# Altium integrated library ESP32 with USB.IntLib: 16 symbols
Pins are listed as number, name and electrical type; pins without a type are passive.

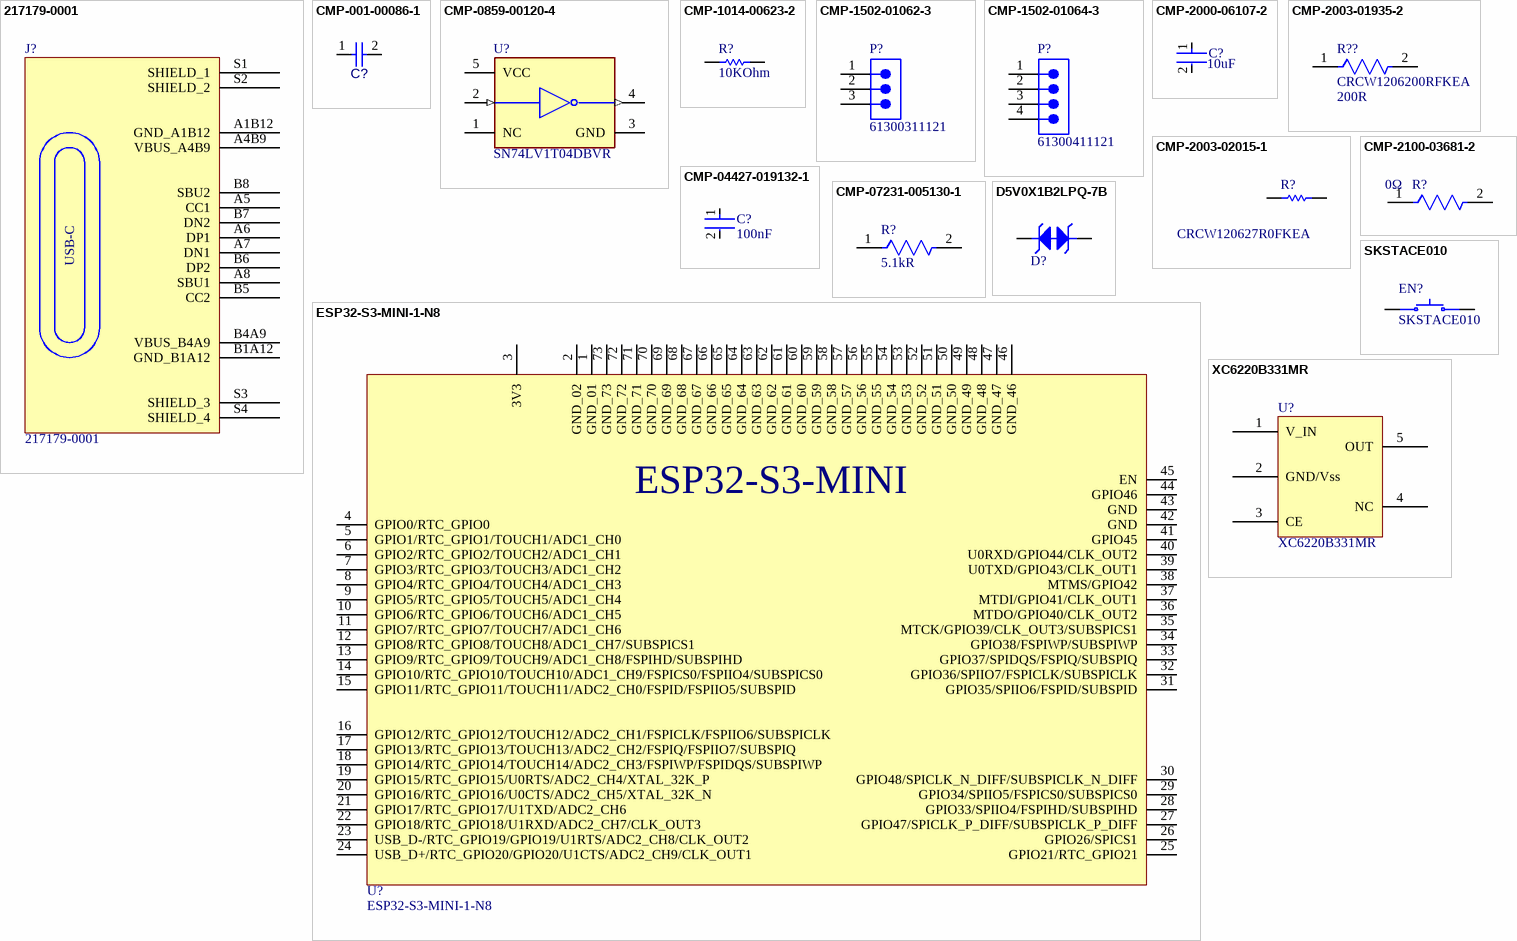
[diagram p0: symbols 217179-0001 to XC6220B331MR]

## 217179-0001
designator J?
CONN RCP USB2.0 TYP C 24P SMD RA; Manufacturer: Molex; Supplier: Digikey; Supplier Part Number: 900-2171790001CT-ND; Manufacturer Part Number: 217179-0001; RoHS: No; Category: Connectors; Stock: 7228; Pricing: 1=0.9, 10=0.745, 100=0.6212 (USD); LCSC Part Number: C3197684
footprint FP-2171790001-MFG
pins: A1B12 GND_A1B12, A4B9 VBUS_A4B9, A5 CC1, A6 DP1, A7 DN1, A8 SBU1, B1A12 GND_B1A12, B4A9 VBUS_B4A9, B5 CC2, B6 DP2, B7 DN2, B8 SBU2, S1 SHIELD_1, S2 SHIELD_2, S3 SHIELD_3, S4 SHIELD_4
text: USB-C

## CMP-001-00086-1
designator C?, comment CL31B105KAHNNNE  (value not drawn)
Ceramic Capacitor, Multilayer, Ceramic, 25V, 10% +Tol, 10% -Tol, X7R, 15% TC, 1uF, Surface Mount, 1206; Manufacturer: Samsung; Value: 1µF; Mounting Technology: Surface Mount; Capacitor Type: Ceramic; Case/Package: 1206; Max Operating Temperature: 125°C; Min Operating Temperature: -55°C; Pins: 2; RoHS Compliant: Yes; Manufacturer Part Number: CL31B105KAHNNNE; Component Type: Capacitors
footprint FP-CL31-IPC_A
pins: 1, 2

## CMP-0859-00120-4
designator U?, comment SN74LV1T04DBVR
IC INVERTER 1CH 1-INP SOT23-5; Number of Inputs: 1; Min Supply Voltage: 1.8V; High Level Output Current: 8mA; Quiescent Current: 1uA; Max Supply Voltage: 5.5V; Propagation Delay: 7ns; Weight: 0.001058oz; Package Quantity: 3000; Number of Channels: 1; Radiation Hardening: No; Mount: Surface Mount; RoHS Compliant: Yes; Number of Bits: 1; Max Operating Temperature: 125°C; Number of Circuits: 1; REACH SVHC: No SVHC; Logic Function: Inverter; Case/Package: SOT-23-5; Lead Free: Lead Free; Number of Pins: 5; Low Level Output Current: 8mA; Packaging: Tape and Reel; Min Operating Temperature: -40°C
footprint FP-DBV0005A-MFG
footprint FP-DBV0005A-IPC_C
footprint FP-DBV0005A-IPC_B
footprint FP-DBV0005A-IPC_A
pins: 1 NC, 2 A (in), 3 GND (power), 4 Y (out), 5 VCC (power)

## CMP-1014-00623-2
designator R?, comment Resistance: 10KOhm  (hidden comment: RC1206FR-0710KL)
Chip Resistor, 10 KOhm, +/- 1%, 0.25 W, -55 to 155 degC, 1206 (3216 Metric), RoHS, Tape and Reel; Manufacturer: Yageo; Voltage Rating: 200V; Temperature Coefficient: 100ppm/degreesC; Power Rating: 250mW; Packaging: TapeandReel; Termination: SMD/SMT; REACH SVHC: Unknown; Tolerance: 1%; Height: 0.55mm; Composition: ThickFilm; Max Operating Temperature: 155degC; Datasheet Version: Rev. 5, 10/2016; Lead Free: LeadFree; Case Code (Metric): 3216; Depth: 1.6mm; Package Quantity: 5000; RoHSCompliant: true; Military Standard: Not; Case/Package: 1206; Case Code (Imperial): 1206; Min Operating Temperature: -55degC; Datasheet URL: http://www.yageo.com/NewPortal/yageodocoutput?fileName=/pdf/R-Chip/PYu-RC_Group_51_RoHS_L_5.pdf; Length: 3.1mm; Manufacturer URL: http://www.yageo.com/; Package Reference: 1206.0; Width: 1.6mm; Package Description: 2-Pin Surface Mount Device, Body 3.1 x 1.6 mm
footprint RESC3116X65X40ML10T20 (Chip Resistor, 2-Leads, Body 3.10x1.60mm, IPC Low Density)
footprint RESC3116X65X40NL10T20 (Chip Resistor, 2-Leads, Body 3.10x1.60mm, IPC Medium Density)
footprint RESC3116X65X40LL10T20 (Chip Resistor, 2-Leads, Body 3.10x1.60mm, IPC High Density)
pins: 1, 2

## CMP-1502-01062-3
designator P?, comment 61300311121
NexarPartId: 32855521; Current Rating: 3A; Voltage Rating: 250V; Number of Positions: 3; Pitch: 2.54mm; Contact Resistance: 20mΩ; Connector Type: Male Pin; Gender: Male; REACH SVHC: Unknown; Packaging: Bulk; Contact Material: Copper; Min Operating Temperature: -40°C; Number of Rows: 1; Orientation: Vertical; RoHS: Compliant; Contact Plating: Gold; Max Operating Temperature: 105°C; Mount: Through Hole; Height: 8.94mm; Operating Supply Voltage: 250V; Number of Pins: 3; Contact Mating Length: 5.9944mm; Number of Contacts: 3; Color: Black; Lead Free: Lead Free; Lead Pitch: 2.54mm; Termination: Solder
footprint 61300311121 (THT Vertical Pin Header WR-PHD, Pitch 2.54 mm, Single Row, 3 pins)
pins: 1, 2, 3

## CMP-1502-01064-3
designator P?, comment 61300411121
NexarPartId: 32855522; Operating Supply Voltage: 250V; Pitch: 2.54mm; Contact Resistance: 20mΩ; Number of Positions: 4; Current Rating: 3A; Connector Type: Male Pin; Gender: Male; Contact Plating: Gold; Height: 8.89mm; Lead Pitch: 2.54mm; Lead Free: Lead Free; Contact Mating Length: 5.9944mm; Number of Rows: 1; Termination: Solder; Packaging: Bulk; REACH SVHC: Unknown; Min Operating Temperature: -40°C; RoHS: Compliant; Number of Contacts: 4; Voltage Rating: 250V; Color: Black; Max Operating Temperature: 105°C; Contact Material: Copper; Mount: Through Hole; Orientation: Vertical; Number of Pins: 4
footprint 61300411121 (THT Vertical Pin Header WR-PHD, Pitch 2.54 mm, Single Row, 4 pins)
pins: 1, 2, 3, 4

## CMP-2000-06107-2
designator C?, comment Capacitance: 10uF  (hidden comment: CL31A106KAHNNNE)
Cap Ceramic 10uF 25V X5R ±10% SMD 1206 +85°C Embossed T/R; Max Operating Temperature: 85°C; Min Operating Temperature: -55°C; Voltage: 25V; Case/Package: 1206; Mount: Surface Mount; Length: 3.2mm; Width: 0.063inch; Contact Plating: Tin; Depth: 1.6mm; Case Code (Metric): 3216; Tolerance: 10%; Height: 1.6mm; Thickness: 0.071inch; Material: Ceramic; Voltage Rating: 25V; Packaging: Tape and Reel; Voltage Rating (DC): 25V; Case Code (Imperial): 1206; Lead Free: Lead Free; Dielectric: X5R; Radiation Hardening: No
footprint FP-CL31-IPC_A
footprint FP-CL31-IPC_C
footprint FP-CL31-IPC_B
pins: 1, 2

## CMP-2003-01935-2
designator R??, comment CRCW1206200RFKEA  Resistance: 200R
RES Thick Film, 200Ω, 1%, 0.25W, 100ppm/°C, 1206; Max Power Dissipation: 250mW; Voltage Rating (DC): 200V; Min Operating Temperature: -55°C; Length: 3.2mm; Composition: Thick Film; Number of Terminations: 2; Power Rating: 250mW; Temperature Coefficient: 100ppm/°C; Lead Free: Lead Free; Voltage Rating: 200V; Case Code (Metric): 3216; Features: Automotive AEC-Q200; Max Operating Temperature: 155°C; Height: 0.55mm; Case/Package: 1206; Contact Plating: Tin; Package Quantity: 10; Width: 1.6mm; Military Standard: Not; Number of Pins: 2; Weight: 0.000353oz; Working Voltage: 200V; Packaging: Tape and Reel; Depth: 1.6mm; Case Code (Imperial): 1206; Termination: SMD/SMT; Radiation Hardening: No; Tolerance: 1%
footprint FP-CRCW1206-e3-IPC_C
footprint FP-CRCW1206-e3-IPC_A
footprint FP-CRCW1206-e3-MFG
footprint FP-CRCW1206-e3-IPC_B
pins: 1, 2

## CMP-2003-02015-1
designator R?, comment CRCW120627R0FKEA
750mW Thick Film Resistors 200V ±1% ±100ppm/℃ 27Ω 1206 Chip Resistor - Surface Mount ROHS; Manufacturer: Vishay Dale; Resistance: 27ohm; Part Number: CRCW120627R0FKEA
footprint RESC3216X60X45LL10T20 (Chip Resistor, 2-Leads, Body 3.20x1.60mm, IPC High Density)
footprint RESC3216X60X45NL10T20 (Chip Resistor, 2-Leads, Body 3.20x1.60mm, IPC Medium Density)
footprint RESC3216X60X45ML10T20 (Chip Resistor, 2-Leads, Body 3.20x1.60mm, IPC Low Density)
pins: 1, 2
1 alternate drawing of the same symbol

## CMP-2100-03681-2
designator R?, comment value 0Ω  (hidden comment: RC1206JR-070RL)
RES SMD 0 OHM JUMPER 1/4W 1206; Manufacturer: YAGEO; Voltage Rating: 200V; Temperature Coefficient: 300ppm/°C; Power Rating: 0.25W; Tolerance: 5%; Manufacturer Part Number: RC1206JR-070RL; Temperature Range Low: -55°C; Category: Res; Automotive: No; Ipc Land Pattern Name: RESC310160X55; Device Class L1: Passive Components; Temperature: -55°C to +155°C; ComponentLink2URL: https://www.yageo.com/upload/media/product/productsearch/datasheet/rchip/PYu-RC_Group_51_RoHS_L_10.pdf; Lead Free: Yes; Height: 0.65mm; Footprint Url: https://www.yageo.com/upload/website/yageo_PYu-R_Mount_10_19050818_343.pdf; Package: RC1206; Digikey Description: RES SMD 0 OHM JUMPER 1/4W 1206; Temperature Range High: +155°C; Device Class L3: Chip SMD Resistors; Device Class L2: Resistors; Octopart: https://octopart.com/rc1206jr-070rl-yageo-40025601; Resistance: 0Ω; Series: RC; ComponentLink2Description: Datasheet; Composition: Thick Film; RoHS: TRUE; Mouser Description: Resistor: thick film; SMD; 1206; 0O; 0.25W; ±5%; -55÷155°C
footprint FP-RC1206-MFG
footprint FP-RC1206-IPC_C
footprint FP-RC1206-IPC_B
footprint FP-RC1206-IPC_A
pins: 1, 2

## CMP-04427-019132-1
designator C?, comment Capacitance: 100nF  (hidden comment: 12065C104JAT2A)
General Purpose Ceramic Capacitor, 1206, 100nF, 5%, X7R, 15%, 50V; Insulation Resistance: 100GR; Dissipation Factor: 2.5%; Depth: 1.6mm; Case/Package: 1206; REACH SVHC: No SVHC; Height: 0.5mm; Termination: SMD/SMT; Packaging: Cut Tape; Voltage: 50V; Min Operating Temperature: -55°C; Width: 1.6mm; Dielectric: X7R; Series: X7R; Case Code (Metric): 3216; Contact Plating: Tin; Package Quantity: 4000; Lead Free: Lead Free; Thickness: 0.037inch; Voltage Rating (DC): 50V; RoHS Compliant: Yes; Voltage Rating: 50V; Length: 3.2mm; Tolerance: 5%; Mount: Surface Mount; Radiation Hardening: No; Weight: 0.000571oz; Max Operating Temperature: 125°C; Dielectric Material: Ceramic; Case Code (Imperial): 1206
footprint FP-1206-L_3_2_0_2-W_1_6_0-IPC_A
footprint FP-1206-L_3_2_0_2-W_1_6_0-IPC_B
footprint FP-1206-L_3_2_0_2-W_1_6_0-MFG
footprint FP-1206-L_3_2_0_2-W_1_6_0-IPC_C
pins: 1, 2

## CMP-07231-005130-1
designator R?, comment Resistance: 5.1kR  (hidden comment: CR1206-FX-5101ELF)
Thick Film Chip Resistors 1206 5.1kΩ 0.25W 1% 100ppm/°C; Voltage Rating: 200V; Max Power Dissipation: 250mW; Min Operating Temperature: -55°C; Length: 3.2mm; Mount: Surface Mount; Tolerance: 1%; Military Standard: Not; Radiation Hardening: No; Case Code (Imperial): 1206; Composition: Thick Film; Max Operating Temperature: 155°C; Thickness: 610um; Height: 0.03inch; Features: Moisture Resistant; Number of Terminations: 2; Packaging: Tape and Reel; Termination: SMD/SMT; Case Code (Metric): 3216; Temperature Coefficient: 100ppm/°C; Contact Plating: Tin; Package Quantity: 1; Width: 0.063inch; Depth: 1.6mm; Power Rating: 250mW; Case/Package: 1206
footprint FP-CR1206-IPC_B
footprint FP-CR1206-MFG
footprint FP-CR1206-IPC_C
footprint FP-CR1206-IPC_A
pins: 1, 2

## D5V0X1B2LPQ-7B
designator D?  (value not drawn)
TVS Diode - ULTRA LOW CAPACITANCE BIDIRECTIONAL
footprint DFN70P101X50-2M (DFN, 2-Leads, Body 0.61x1.01mm, Pitch 0.70mm, IPC Low Density)
footprint DFN70P101X50-2M2 (DFN, 2-Leads, Body 0.61x1.01mm, Pitch 0.70mm, IPC Low Density)
pins: 1, 2

## ESP32-S3-MINI-1-N8
designator U?
SMD Module, ESP32-S3FN8, 8 mb Sp; Manufacturer: Espressif Systems; Supplier: Digikey; Supplier Part Number: 1965-ESP32-S3-MINI-1-N8CT-ND; Manufacturer Part Number: ESP32-S3-MINI-1-N8; RoHS: No; Category: LDO; Stock: 2024; Pricing: 1=3.1 (USD); LCSC Part Number: C2913206
footprint XCVR_ESP32-S3-MINI-1-N8
pins: 1 GND_01, 2 GND_02, 3 3V3, 4 GPIO0/RTC_GPIO0, 5 GPIO1/RTC_GPIO1/TOUCH1/ADC1_CH0, 6 GPIO2/RTC_GPIO2/TOUCH2/ADC1_CH1, 7 GPIO3/RTC_GPIO3/TOUCH3/ADC1_CH2, 8 GPIO4/RTC_GPIO4/TOUCH4/ADC1_CH3, 9 GPIO5/RTC_GPIO5/TOUCH5/ADC1_CH4, 10 GPIO6/RTC_GPIO6/TOUCH6/ADC1_CH5, 11 GPIO7/RTC_GPIO7/TOUCH7/ADC1_CH6, 12 GPIO8/RTC_GPIO8/TOUCH8/ADC1_CH7/SUBSPICS1, 13 GPIO9/RTC_GPIO9/TOUCH9/ADC1_CH8/FSPIHD/SUBSPIHD, 14 GPIO10/RTC_GPIO10/TOUCH10/ADC1_CH9/FSPICS0/FSPIIO4/SUBSPICS0, 15 GPIO11/RTC_GPIO11/TOUCH11/ADC2_CH0/FSPID/FSPIIO5/SUBSPID, 16 GPIO12/RTC_GPIO12/TOUCH12/ADC2_CH1/FSPICLK/FSPIIO6/SUBSPICLK, 17 GPIO13/RTC_GPIO13/TOUCH13/ADC2_CH2/FSPIQ/FSPIIO7/SUBSPIQ, 18 GPIO14/RTC_GPIO14/TOUCH14/ADC2_CH3/FSPIWP/FSPIDQS/SUBSPIWP, 19 GPIO15/RTC_GPIO15/U0RTS/ADC2_CH4/XTAL_32K_P, 20 GPIO16/RTC_GPIO16/U0CTS/ADC2_CH5/XTAL_32K_N, 21 GPIO17/RTC_GPIO17/U1TXD/ADC2_CH6, 22 GPIO18/RTC_GPIO18/U1RXD/ADC2_CH7/CLK_OUT3, 23 USB_D-/RTC_GPIO19/GPIO19/U1RTS/ADC2_CH8/CLK_OUT2, 24 USB_D+/RTC_GPIO20/GPIO20/U1CTS/ADC2_CH9/CLK_OUT1, 25 GPIO21/RTC_GPIO21, 26 GPIO26/SPICS1, 27 GPIO47/SPICLK_P_DIFF/SUBSPICLK_P_DIFF, 28 GPIO33/SPIIO4/FSPIHD/SUBSPIHD, 29 GPIO34/SPIIO5/FSPICS0/SUBSPICS0, 30 GPIO48/SPICLK_N_DIFF/SUBSPICLK_N_DIFF, 31 GPIO35/SPIIO6/FSPID/SUBSPID, 32 GPIO36/SPIIO7/FSPICLK/SUBSPICLK, 33 GPIO37/SPIDQS/FSPIQ/SUBSPIQ, 34 GPIO38/FSPIWP/SUBSPIWP, 35 MTCK/GPIO39/CLK_OUT3/SUBSPICS1, 36 MTDO/GPIO40/CLK_OUT2, 37 MTDI/GPIO41/CLK_OUT1, 38 MTMS/GPIO42, 39 U0TXD/GPIO43/CLK_OUT1, 40 U0RXD/GPIO44/CLK_OUT2, 41 GPIO45, 42 GND, 43 GND, 44 GPIO46, 45 EN, 46 GND_46, 47 GND_47, 48 GND_48, 49 GND_49, 50 GND_50, 51 GND_51, 52 GND_52, 53 GND_53, 54 GND_54, 55 GND_55, 56 GND_56, 57 GND_57, 58 GND_58, 59 GND_59, 60 GND_60, 61 GND_61, 62 GND_62, 63 GND_63, 64 GND_64, 65 GND_65, 66 GND_66, 67 GND_67, 68 GND_68, 69 GND_69, 70 GND_70, 71 GND_71, 72 GND_72, 73 GND_73
text: ESP32-S3-MINI

## SKSTACE010
designator EN?
Switch Tactile N.O. SPST Round Button J-Bend 0.05A 16VDC 500000Cycles 4N SMD T/R; Package: None; Price: None; Value: *; MP: SKSTACE010; Availability: Unavailable
footprint SW_SKSTACE010
footprint SW_SKSTACE010
pins: 1, 2

## XC6220B331MR
designator U?
LDO - 70dB@(1kHz) 900mA Fixed 3.3V Positive electrode 5.5V SOT-23-5 Voltage Regulators - Linear, Low Drop Out (LDO) Regulators ROHS
footprint SOT23-5 (SOT143-4 as used in SP0503BAHTG)
pins: 1 V_IN, 2 GND/Vss, 3 CE, 4 NC, 5 OUT